# EAGLE library part 62003221821 (library Eagle_BOARD-TO-BOARD_CONNECTORS (rev18b))
WR-PHD 2.00mm Dual Socket Header, 32 Pins=>Code : Con_BTB_SHD_2.00_2_62003221821 <http://katalog.we-online.de/media/thumbs2/eican/thb_Con_BTB_SHD_2.00_2_6200xx21821_pf2.jpg> Details see: http://katalog.we-online.de/en/em/PHD_2_00_DUAL_SOCKET_HEADER_6200XX21821 Created 2014-06-03, Karrer Zheng 2014 (C) Würth Elektronik
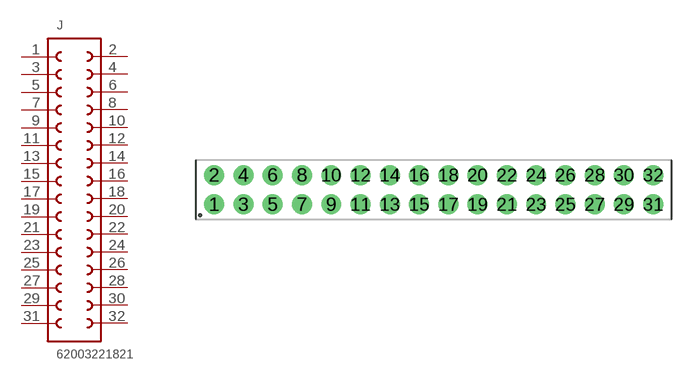
[diagram p252: symbol with the pads of 62003221821; footprint 62003221821]

Designator prefix J

## 62003221821  [62003221821]
1  1  pas
2  32  pas
3  2  pas
4  31  pas
5  3  pas
6  30  pas
7  4  pas
8  29  pas
9  5  pas
10  28  pas
11  6  pas
12  27  pas
13  7  pas
14  26  pas
15  8  pas
16  25  pas
17  9  pas
18  24  pas
19  10  pas
20  23  pas
21  11  pas
22  22  pas
23  12  pas
24  21  pas
25  13  pas
26  20  pas
27  14  pas
28  19  pas
29  15  pas
30  18  pas
31  16  pas
32  17  pas

## Footprint 62003221821 (pad centres in mm)
WR-PHD 2.00mm Dual Socket Header, 32 Pins
drill 0.85: 1 -15,-1; 2 -15,1; 3 -13,-1; 4 -13,1; 5 -11,-1; 6 -11,1; 7 -9,-1; 8 -9,1; 9 -7,-1; 10 -7,1; 11 -5,-1; 12 -5,1; 13 -3,-1; 14 -3,1; 15 -1,-1; 16 -1,1; 17 1,-1; 18 1,1; 19 3,-1; 20 3,1; 21 5,-1; 22 5,1; 23 7,-1; 24 7,1; 25 9,-1; 26 9,1; 27 11,-1; 28 11,1; 29 13,-1; 30 13,1; 31 15,-1; 32 15,1